# Altium integrated library Памать.IntLib: 1 symbol
Pins are listed as number, name and electrical type; pins without a type are passive.

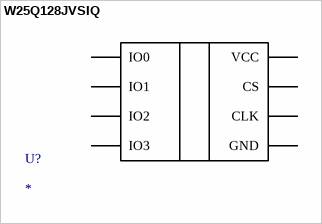
[diagram p0: symbol W25Q128JVSIQ]

## W25Q128JVSIQ
designator U?
FLASH - NOR Memory IC 128Mb (16M x 8) SPI - Quad I/O, QPI, DTR 133 MHz 8-SOIC; Корпус: SOIC-8; IO0: (DATA INPUT); IO1: (DATA OUTPUT); IO2: (WRITE PROTECT); IO3: (HOLD/RESET)
footprint SOIC127P790X216-8N
pins: 1 CS, 2 IO1, 3 IO2, 4 GND (power), 5 IO0, 6 CLK, 7 IO3, 8 VCC (power)